# EAGLE library part JST-XH-9 (library con-JST-XH)
JST-XH 4-way vertical TH
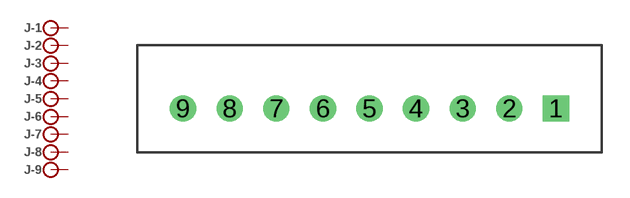
[diagram p5: symbol with the pads of B9B-XH-A; footprint B9B-XH-A]

Designator prefix J; gates -1=PIN -2=PIN -3=PIN -4=PIN -5=PIN -6=PIN -7=PIN -8=PIN -9=PIN

## JST-XH-9 (MF: JST; MPN: B9B-XH-A)  [B9B-XH-A]
1  -1:P
2  -2:P
3  -3:P
4  -4:P
5  -5:P
6  -6:P
7  -7:P
8  -8:P
9  -9:P

## Footprint B9B-XH-A (pad centres in mm)
JST-XH (2.5mm) 9-pin through-hole vertical Wire-Board Connector
drill 0.9 square: 1 10,0
drill 0.9: 2 7.5,0; 3 5,0; 4 2.5,0; 5 0,0; 6 -2.5,0; 7 -5,0; 8 -7.5,0; 9 -10,0